# Altium schematic symbol library FSM4JH.SchLib: 1 symbol
Pins are listed as number, name and electrical type; pins without a type are passive.

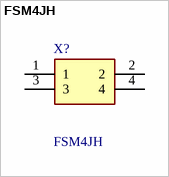
[diagram p0: symbol FSM4JH]

## FSM4JH
designator X?
6x6mm tactile switch,5mm H 1.6N Black Button Tactile Switch, SPST-NO 50 mA@ 24 V dc 1.4mm; Manufacturer_Name: TE Connectivity; Mouser Part Number: 506-FSM4JH; Mouser Price/Stock: https://www.mouser.co.uk/ProductDetail/TE-Connectivity-Alcoswitch/FSM4JH?qs=g%252BEszo6zu8OwVWrHD2r3Rw%3D%3D; Manufacturer_Part_Number: FSM4JH; Datasheet Link: http://www.te.com/commerce/DocumentDelivery/DDEController?Action=showdoc&DocId=Customer+Drawing%7F1825910%7FC9%7Fpdf%7FEnglish%7FENG_CD_1825910_C9.pdf%7F1825910-6
footprint FSM4JH
pins: 1, 2, 3, 4